# EAGLE library part MCP41010T-I/SN (library MCP41010T-I_SN)
Digital potentiometer Check availability <https://pricing.snapeda.com/parts/MCP41010T-I/SN/Microchip%20Technology/view-part?ref=eda>
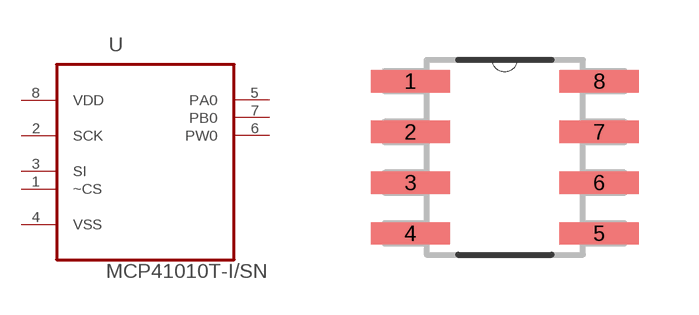
[diagram p0: symbol with the pads of SOIC127P600X175-8N; footprint SOIC127P600X175-8N]

Designator prefix -

## MCP41010T-I/SN (Availability: In Stock; Description: Digital Potentiometer 10k Ohm 1 Circuit 256 Taps SPI Interface 8-SOIC; MF: Microchip Technology; MP: MCP41010T-I/SN; Package: SOIC-8 Microchip; Price: None; Purchase-URL: https://pricing.snapeda.com/search/part/MCP41010T-I/SN/?ref=eda)  [SOIC127P600X175-8N]
1  ~CS  in
2  SCK  in
3  SI  in
4  VSS  pas
5  PA0
6  PW0
7  PB0
8  VDD  pwr

## Footprint SOIC127P600X175-8N (pad centres in mm)
smd 1.981 x 0.559: 1 -2.362,1.905; 2 -2.362,0.635; 3 -2.362,-0.635; 4 -2.362,-1.905; 5 2.362,-1.905; 6 2.362,-0.635; 7 2.362,0.635; 8 2.362,1.905